# Altium schematic symbol library BRKSWS01Lib.SchLib: 1 symbol
Pins are listed as number, name and electrical type; pins without a type are passive.

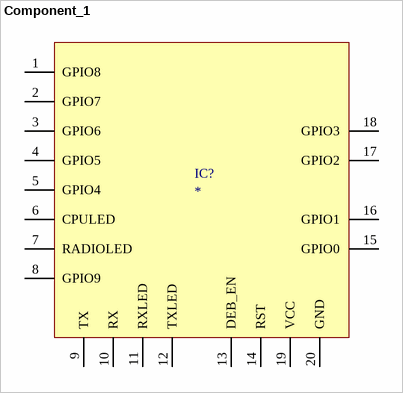
[diagram p0: symbol Component_1]

## Component_1
designator IC?
footprint WSSFM10R1AT
pins: 1 GPIO8, 2 GPIO7, 3 GPIO6, 4 GPIO5, 5 GPIO4, 6 CPULED, 7 RADIOLED, 8 GPIO9, 9 TX, 10 RX, 11 RXLED, 12 TXLED, 13 DEB_EN, 14 RST, 15 GPIO0, 16 GPIO1, 17 GPIO2, 18 GPIO3, 19 VCC, 20 GND